# Altium schematic symbol library Components.SchLib: 32 symbols
Pins are listed as number, name and electrical type; pins without a type are passive.

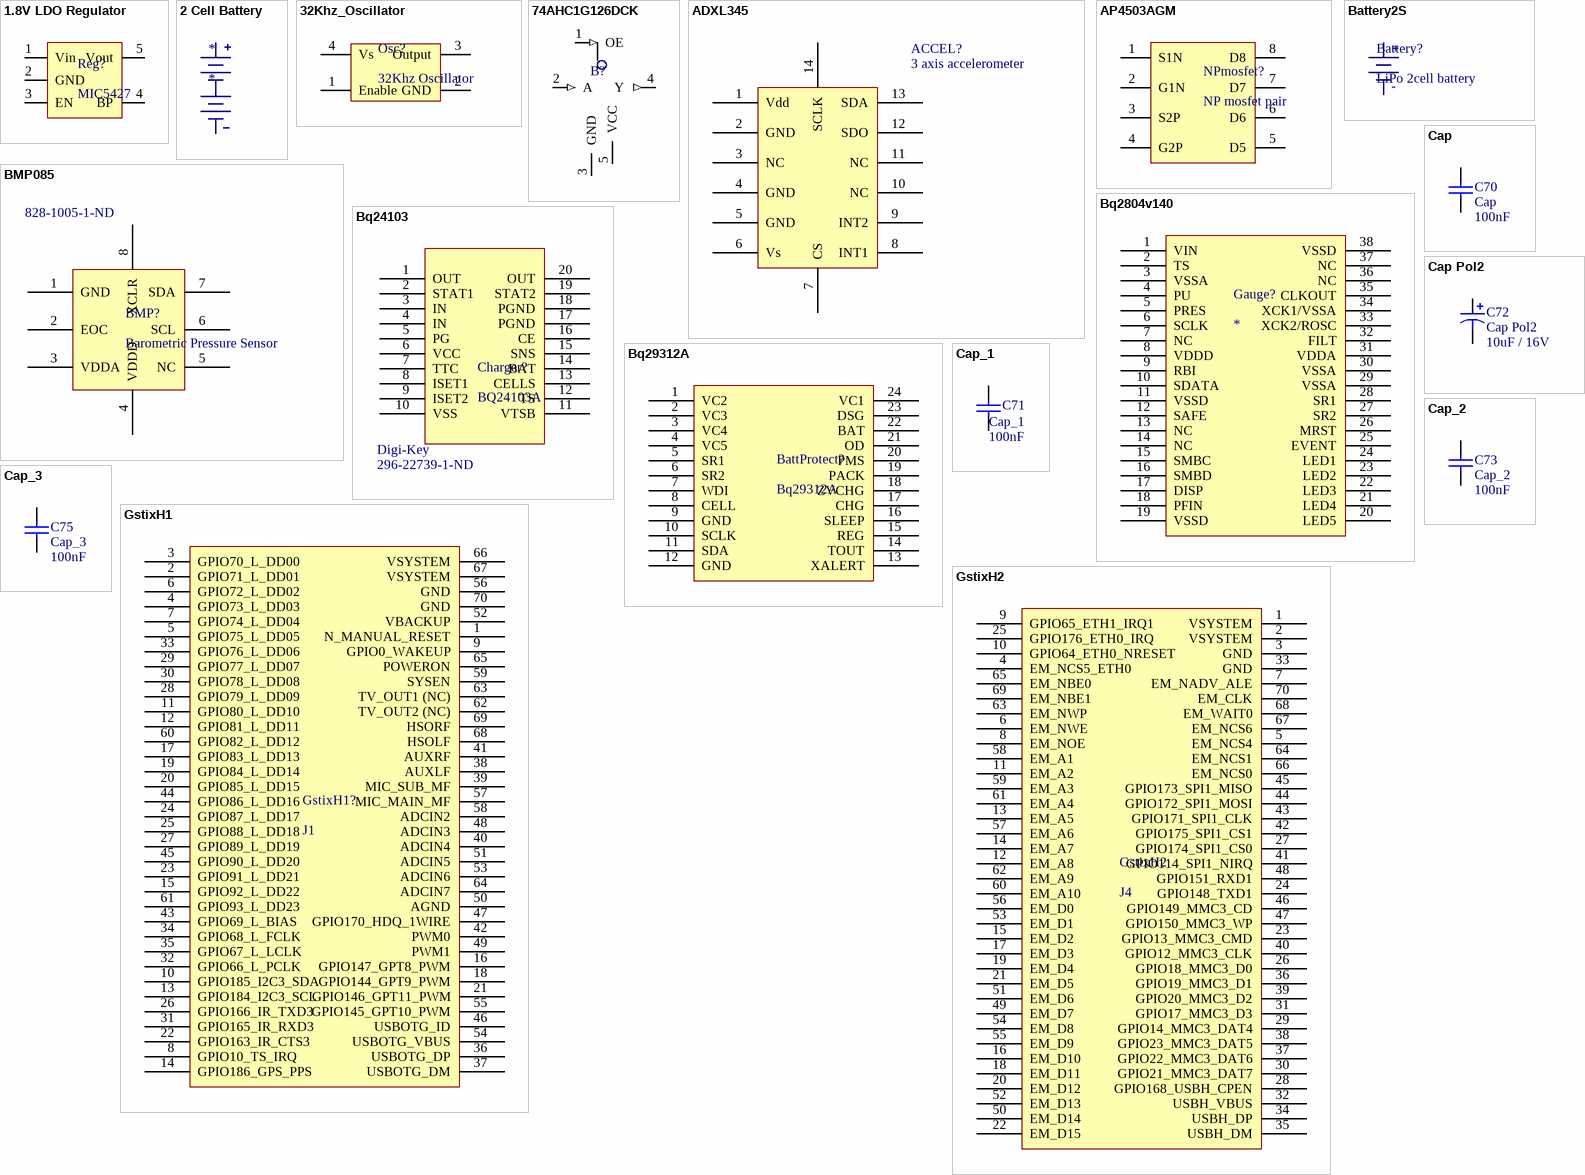
[diagram p0: symbols 1.8V LDO Regulator to GstixH2]

## 1.8V LDO Regulator
designator Reg?, comment MIC5427
576-1288-1-ND; Manufacturer: Micrel Inc; Manufacturer Part Number: MIC5247-1.8YM5 TR; Description: IC REG VOLT 150MA 1.8V SOT23-5; Regulator Topology: Positive Fixed; Voltage - Output: 1.8V; Voltage - Input: 2.7 V ~ 6 V; Voltage - Dropout (Typical): 0.15V @ 150mA; Number of Regulators: 1; Current - Output: 150mA; Current - Limit (Min): 160mA; Supplier Part Number 1: 576-1288-1-ND; Supplier 1: Digi-Key; RoHS: RoHS Compliant; Category: Integrated Circuits (ICs); Stock 1: 11342; Pricing 1: 1=0.9, 25=0.75, 100=0.6, 250=0.45, 500=0.42 (USD); Operating Temperature: -40°C ~ 125°C; Mounting Type: Surface Mount; Package / Case: SC-74A, SOT-753; Supplier Device Package: SOT-23-5; Packaging: Cut Tape (CT); ComponentLink1URL: http://www.micrel.com/_PDF/mic5247.pdf; ComponentLink1Description: http://www.micrel.com/_PDF/mic5247.pdf
footprint SOT23-STD-5-Lead (SOT23, 5-Leads, Body 3.0x3.0mm (max), Pitch 0.95mm, IPC Medium Density)
pins: 1 Vin, 2 GND, 3 EN, 4 BP, 5 Vout

## 2 Cell Battery
designator *
footprint Turnigy Nanotech 2cell (LiPo 2 cell battery 7.4V)
pins: 1 +, 2 Ctap, 3 -

## 32Khz_Oscillator
designator Osc?, comment 32Khz Oscillator
535-9999-1-ND; Manufacturer: Abracon Corporation; Manufacturer Part Number: ASDK-32.768KHZ-LRT; Description: OSCILLATOR 32.768KHZ 3.3V SMD; Frequency: 32.768kHz; Function: Tri-State (Output Enable); Output: CMOS; Voltage - Supply: 3.3V; Frequency Stability: ±25ppm; Current - Supply (Max): 3.5mA; Supplier Part Number 1: 535-9999-1-ND; Supplier 1: Digi-Key; RoHS: RoHS Compliant; Category: Crystals and Oscillators; Stock 1: 2339; Pricing 1: 1=5.06, 10=4.388, 50=3.8476, 100=3.0375, 500=2.565 (USD); Type: XO (Standard); Operating Temperature: -40°C ~ 85°C; Mounting Type: Surface Mount; Size / Dimension: 0.098" L x 0.079" W (2.50mm x 2.00mm); Height: 0.037" (0.95mm); Package / Case: 4-SMD, No Lead (DFN, LCC); Packaging: Cut Tape (CT); Current - Supply (Disable) (Max): -; ComponentLink1URL: http://www.abracon.com/Oscillators/ASDK.pdf; ComponentLink1Description: http://www.abracon.com/Oscillators/ASDK.pdf
footprint Oscillator
pins: 1 Enable, 2 GND, 3 Output, 4 Vs

## 74AHC1G126DCK
designator B?, comment single tristate output line buffer  (value not drawn)
296-8747-1-ND
footprint SOT95P280X145-5N (SOT23, 5-Leads, Body 3.0x3.0mm (max), Pitch 0.95mm, IPC Medium Density)
pins: 1 OE (in), 2 A (in), 3 GND (power), 4 Y (out), 5 VCC (power)

## ADXL345
designator ACCEL?, comment 3 axis accelerometer
ADXL345BCCZ-RLCT-ND; Manufacturer: Analog Devices Inc; Description: IC ACCEL SPI/I2C 3AX 3G 14LGA; Axis: X, Y, Z; Acceleration Range: ±2g, 4g, 8g, 16g; Sensitivity: 256LSB/g, 128LSB/g, 64LSB/g, 32LSB/g; Voltage - Supply: 2 V ~ 3.6 V; Output Type: Digital; Bandwidth: 6.25Hz ~ 3.2kHz Selectable; Interface: I²C, SPI; Supplier Part Number 1: ADXL345BCCZ-RLCT-ND; Supplier 1: Digi-Key; Manufacturer Part Number: ADXL345BCCZ-RL; RoHS: RoHS Compliant; Category: Sensors, Transducers; Stock 1: 13838; Pricing 1: 1=7.79, 25=6.4712, 100=5.8828, 250=5.29452, 500=4.85332, 1000=4.26503, 2500=4.04444 (USD); Mounting Type: Surface Mount; Package / Case: 14-VFLGA; Supplier Device Package: 14-LGA (3x5); ComponentLink1URL: http://www.analog.com/static/imported-files/data_sheets/ADXL345.pdf; ComponentLink1Description: http://www.analog.com/static/imported-files/data_sheets/ADXL345.pdf
footprint 16 pin 3mmx3mm LGA (16-Terminal Land Grid Array)
pins: 1 Vdd (power), 2 GND, 3 NC, 4 GND, 5 GND, 6 Vs, 7 CS, 8 INT1, 9 INT2, 10 NC, 11 NC, 12 SDO, 13 SDA, 14 SCLK (power)

## AP4503AGM
designator NPmosfet?, comment NP mosfet pair
footprint Model Name (Footprint not found)
pins: 1 S1N, 2 G1N, 3 S2P, 4 G2P, 5 D5, 6 D6, 7 D7, 8 D8

## Battery2S
designator Battery?, comment LiPo 2cell battery
footprint LiPo2S (LiPo 2 cell battery 7.4V)
pins: 1 +, 2 -

## BMP085
designator BMP?, comment Barometric Pressure Sensor
828-1005-1-ND; Manufacturer: Bosch Sensortec; Manufacturer Part Number: BMP085; Description: DIGITAL BAROMETRIC PRESSURE SNSR; Pressure Type: Absolute; Operating Pressure: 4.35 ~ 15.95 PSI, 300 ~ 1100 hPa; Port Size: Female, 0.591" (1.5mm) Flush; Output: Digital; Voltage - Supply: 1.62 V ~ 3.6 V; Supplier 1: Digi-Key; RoHS: RoHS Compliant; Category: Sensors, Transducers; Stock 1: 15867; Pricing 1: 1=7.89, 10=6.575, 100=5.523, 250=4.997, 500=4.6025, 1000=4.208 (USD); Accuracy: -; Termination Style: Surface Mount; Operating Temperature: -40°C ~ 85°C; Package / Case: 8-CLCC; Factory Setting: -; ComponentLink1URL: http://www.bosch-sensortec.com/content/language1/downloads/BST-BMP085-DS000-05.pdf; ComponentLink1Description: http://www.bosch-sensortec.com/content/language1/downloads/BST-BMP085-DS000-05.pdf; Supplier Part Number 1: 828-1005-1-ND
footprint LCCS127P500X500X120-8M (LCC, 8-Pins, Body 5.3x5.3mm (max), Pitch 1.27mm, IPC Low Density)
pins: 1 GND, 2 EOC, 3 VDDA, 4 VDDD, 5 NC, 6 SCL, 7 SDA, 8 XCLR

## Bq2804v140
designator Gauge?
footprint TSSOP50P640X120-38N (TSSOP, 38-Leads, Body 9.8x4.5mm (max), Pitch 0.50mm, IPC Medium Density)
pins: 1 VIN, 2 TS, 3 VSSA, 4 PU, 5 PRES, 6 SCLK, 7 NC, 8 VDDD, 9 RBI, 10 SDATA, 11 VSSD, 12 SAFE, 13 NC, 14 NC, 15 SMBC, 16 SMBD, 17 DISP, 18 PFIN, 19 VSSD, 20 LED5, 21 LED4, 22 LED3, 23 LED2, 24 LED1, 25 EVENT, 26 MRST, 27 SR2, 28 SR1, 29 VSSA, 30 VSSA, 31 VDDA, 32 FILT, 33 XCK2/ROSC, 34 XCK1/VSSA, 35 CLKOUT, 36 NC, 37 NC, 38 VSSD

## Bq24103
designator Charger?, comment BQ24103A  Supplier 1: Digi-Key
296-22739-1-ND; Supplier Part Number 1: 296-22739-1-ND
footprint QFN50P350X450X100-20N (QFN, 20-Leads, Body 4.7x3.7mm (max), Pitch 1.50mm, Pitch1 0.50mm, IPC Medium Density)
pins: 1 OUT, 2 STAT1, 3 IN, 4 IN, 5 PG, 6 VCC, 7 TTC, 8 ISET1, 9 ISET2, 10 VSS, 11 VTSB, 12 TS, 13 CELLS, 14 BAT, 15 SNS, 16 CE, 17 PGND, 18 PGND, 19 STAT2, 20 OUT

## Bq29312A
designator BattProtect?
296-19870-1-ND; Supplier 1: Digi-Key; Supplier Part Number 1: 296-19870-1-ND
footprint TSOP65P640X120-24N (TSOP, 24-Leads, Body 7.9x4.5mm (max), Pitch 0.65mm, IPC Medium Density)
pins: 1 VC2, 2 VC3, 3 VC4, 4 VC5, 5 SR1, 6 SR2, 7 WDI, 8 CELL, 9 GND, 10 SCLK, 11 SDA, 12 GND, 13 XALERT, 14 TOUT, 15 REG, 16 SLEEP, 17 CHG, 18 ZVCHG, 19 PACK, 20 PMS, 21 OD, 22 BAT, 23 DSG, 24 VC1

## Cap
designator C70  value 100nF
Published: 8-Jun-2000; LatestRevisionDate: 17-Jul-2002; LatestRevisionNote: Re-released for DXP Platform.; PackageReference: 0603; Publisher: Altium Limited
footprint RAD-0.3 (Capacitor; 2 Leads)
footprint VP32-3.2 (Capacitor, Ceramic, Thru-Hole, Dipped Radial; Body 5.1 x 3.2 mm (WxT) Pin Spacing 2.54 mm (typ))
footprint VP45-3.2 (Capacitor, Ceramic, Thru-Hole, Dipped Radial; Body 7.8 x 3.2 mm (WxT) Pin Spacing 5.08 mm (typ))
simulation model CAP (Capacitor)
signal-integrity model Cap
footprint 0603
pins: 1, 2

## Cap Pol2
designator C72  value 10uF / 16V
Published: 8-Jun-2000; LatestRevisionDate: 17-Jul-2002; LatestRevisionNote: Re-released for DXP Platform.; PackageReference: POLAR0.8; Publisher: Altium Limited
footprint TANT-A
footprint CAPPA14.05-10.5x6.3 (Capacitor, Axial, Polarised; Body 10.5 x 6.3 mm (LxDia. max), Lead Dia. 0.6 mm (typ))
footprint CAPPA23.6-18.5x8.5 (Capacitor, Axial, Polarised; Body 18.5 x 8.5 mm (LxDia. max), Lead Dia. 0.8 mm (typ))
footprint CAPPA31.6-26.5x12.5 (Capacitor, Axial, Polarised; Body 26.5 x 12.5 mm (LxDia. max), Lead Dia. 0.8 mm (typ))
footprint CAPPA35.6-30.5x18.5 (Capacitor, Axial, Polarised; Body 30.5 x 18.5 mm (LxDia. max), Lead Dia. 0.8 mm (typ))
footprint CAPPA46.1-41x21.5 (Capacitor, Axial, Polarised; Body 41 x 21.5 mm (LxDia. max), Lead Dia. 0.8 mm (typ))
simulation model CAP (Capacitor)
signal-integrity model Cap Pol
pins: 1, 2
1 alternate drawing of the same symbol

## Cap_1
designator C71  value 100nF
Published: 8-Jun-2000; LatestRevisionDate: 17-Jul-2002; LatestRevisionNote: Re-released for DXP Platform.; PackageReference: 0603; Publisher: Altium Limited
footprint RAD-0.3 (Capacitor; 2 Leads)
footprint VP32-3.2 (Capacitor, Ceramic, Thru-Hole, Dipped Radial; Body 5.1 x 3.2 mm (WxT) Pin Spacing 2.54 mm (typ))
footprint VP45-3.2 (Capacitor, Ceramic, Thru-Hole, Dipped Radial; Body 7.8 x 3.2 mm (WxT) Pin Spacing 5.08 mm (typ))
simulation model CAP (Capacitor)
signal-integrity model Cap
footprint 0603
pins: 1, 2

## Cap_2
designator C73  value 100nF
Published: 8-Jun-2000; LatestRevisionDate: 17-Jul-2002; LatestRevisionNote: Re-released for DXP Platform.; PackageReference: 0603; Publisher: Altium Limited
footprint RAD-0.3 (Capacitor; 2 Leads)
footprint VP32-3.2 (Capacitor, Ceramic, Thru-Hole, Dipped Radial; Body 5.1 x 3.2 mm (WxT) Pin Spacing 2.54 mm (typ))
footprint VP45-3.2 (Capacitor, Ceramic, Thru-Hole, Dipped Radial; Body 7.8 x 3.2 mm (WxT) Pin Spacing 5.08 mm (typ))
simulation model CAP (Capacitor)
signal-integrity model Cap
footprint 0603
pins: 1, 2

## Cap_3
designator C75  value 100nF
Published: 8-Jun-2000; LatestRevisionDate: 17-Jul-2002; LatestRevisionNote: Re-released for DXP Platform.; PackageReference: 0603; Publisher: Altium Limited
footprint RAD-0.3 (Capacitor; 2 Leads)
footprint VP32-3.2 (Capacitor, Ceramic, Thru-Hole, Dipped Radial; Body 5.1 x 3.2 mm (WxT) Pin Spacing 2.54 mm (typ))
footprint VP45-3.2 (Capacitor, Ceramic, Thru-Hole, Dipped Radial; Body 7.8 x 3.2 mm (WxT) Pin Spacing 5.08 mm (typ))
simulation model CAP (Capacitor)
signal-integrity model Cap
footprint 0603
pins: 1, 2

## GstixH1
designator GstixH1?, comment J1
footprint 5602_70_AVX_connecter
pins: 1 N_MANUAL_RESET, 2 GPIO71_L_DD01, 3 GPIO70_L_DD00, 4 GPIO73_L_DD03, 5 GPIO75_L_DD05, 6 GPIO72_L_DD02, 7 GPIO74_L_DD04, 8 GPIO10_TS_IRQ, 9 GPIO0_WAKEUP, 10 GPIO185_I2C3_SDA, 11 GPIO80_L_DD10, 12 GPIO81_L_DD11, 13 GPIO184_I2C3_SCL, 14 GPIO186_GPS_PPS, 15 GPIO92_L_DD22, 16 GPIO147_GPT8_PWM, 17 GPIO83_L_DD13, 18 GPIO144_GPT9_PWM, 19 GPIO84_L_DD14, 20 GPIO85_L_DD15, 21 GPIO146_GPT11_PWM, 22 GPIO163_IR_CTS3, 23 GPIO91_L_DD21, 24 GPIO87_L_DD17, 25 GPIO88_L_DD18, 26 GPIO166_IR_TXD3, 27 GPIO89_L_DD19, 28 GPIO79_L_DD09, 29 GPIO77_L_DD07, 30 GPIO78_L_DD08, 31 GPIO165_IR_RXD3, 32 GPIO66_L_PCLK, 33 GPIO76_L_DD06, 34 GPIO68_L_FCLK, 35 GPIO67_L_LCLK, 36 USBOTG_DP, 37 USBOTG_DM, 38 AUXLF, 39 MIC_SUB_MF, 40 ADCIN4, 41 AUXRF, 42 PWM0, 43 GPIO69_L_BIAS, 44 GPIO86_L_DD16, 45 GPIO90_L_DD20, 46 USBOTG_ID, 47 GPIO170_HDQ_1WIRE, 48 ADCIN3, 49 PWM1, 50 AGND, 51 ADCIN5, 52 VBACKUP, 53 ADCIN6, 54 USBOTG_VBUS, 55 GPIO145_GPT10_PWM, 56 GND, 57 MIC_MAIN_MF, 58 ADCIN2, 59 SYSEN, 60 GPIO82_L_DD12, 61 GPIO93_L_DD23, 62 TV_OUT2 (NC), 63 TV_OUT1 (NC), 64 ADCIN7, 65 POWERON, 66 VSYSTEM, 67 VSYSTEM, 68 HSOLF, 69 HSORF, 70 GND

## GstixH2
designator GstixH2, comment J4
footprint 5602_70_AVX_connecter
pins: 1 VSYSTEM, 2 VSYSTEM, 3 GND, 4 EM_NCS5_ETH0, 5 EM_NCS4, 6 EM_NWE, 7 EM_NADV_ALE, 8 EM_NOE, 9 GPIO65_ETH1_IRQ1, 10 GPIO64_ETH0_NRESET, 11 EM_A2, 12 EM_A8, 13 EM_A5, 14 EM_A7, 15 EM_D2, 16 EM_D10, 17 EM_D3, 18 EM_D11, 19 EM_D4, 20 EM_D12, 21 EM_D5, 22 EM_D15, 23 GPIO13_MMC3_CMD, 24 GPIO148_TXD1, 25 GPIO176_ETH0_IRQ, 26 GPIO18_MMC3_D0, 27 GPIO174_SPI1_CS0, 28 GPIO168_USBH_CPEN, 29 GPIO14_MMC3_DAT4, 30 GPIO21_MMC3_DAT7, 31 GPIO17_MMC3_D3, 32 USBH_VBUS, 33 GND, 34 USBH_DP, 35 USBH_DM, 36 GPIO19_MMC3_D1, 37 GPIO22_MMC3_DAT6, 38 GPIO23_MMC3_DAT5, 39 GPIO20_MMC3_D2, 40 GPIO12_MMC3_CLK, 41 GPIO114_SPI1_NIRQ, 42 GPIO175_SPI1_CS1, 43 GPIO171_SPI1_CLK, 44 GPIO172_SPI1_MOSI, 45 GPIO173_SPI1_MISO, 46 GPIO149_MMC3_CD, 47 GPIO150_MMC3_WP, 48 GPIO151_RXD1, 49 EM_D7, 50 EM_D14, 51 EM_D6, 52 EM_D13, 53 EM_D1, 54 EM_D8, 55 EM_D9, 56 EM_D0, 57 EM_A6, 58 EM_A1, 59 EM_A3, 60 EM_A10, 61 EM_A4, 62 EM_A9, 63 EM_NWP, 64 EM_NCS1, 65 EM_NBE0, 66 EM_NCS0, 67 EM_NCS6, 68 EM_WAIT0, 69 EM_NBE1, 70 EM_CLK

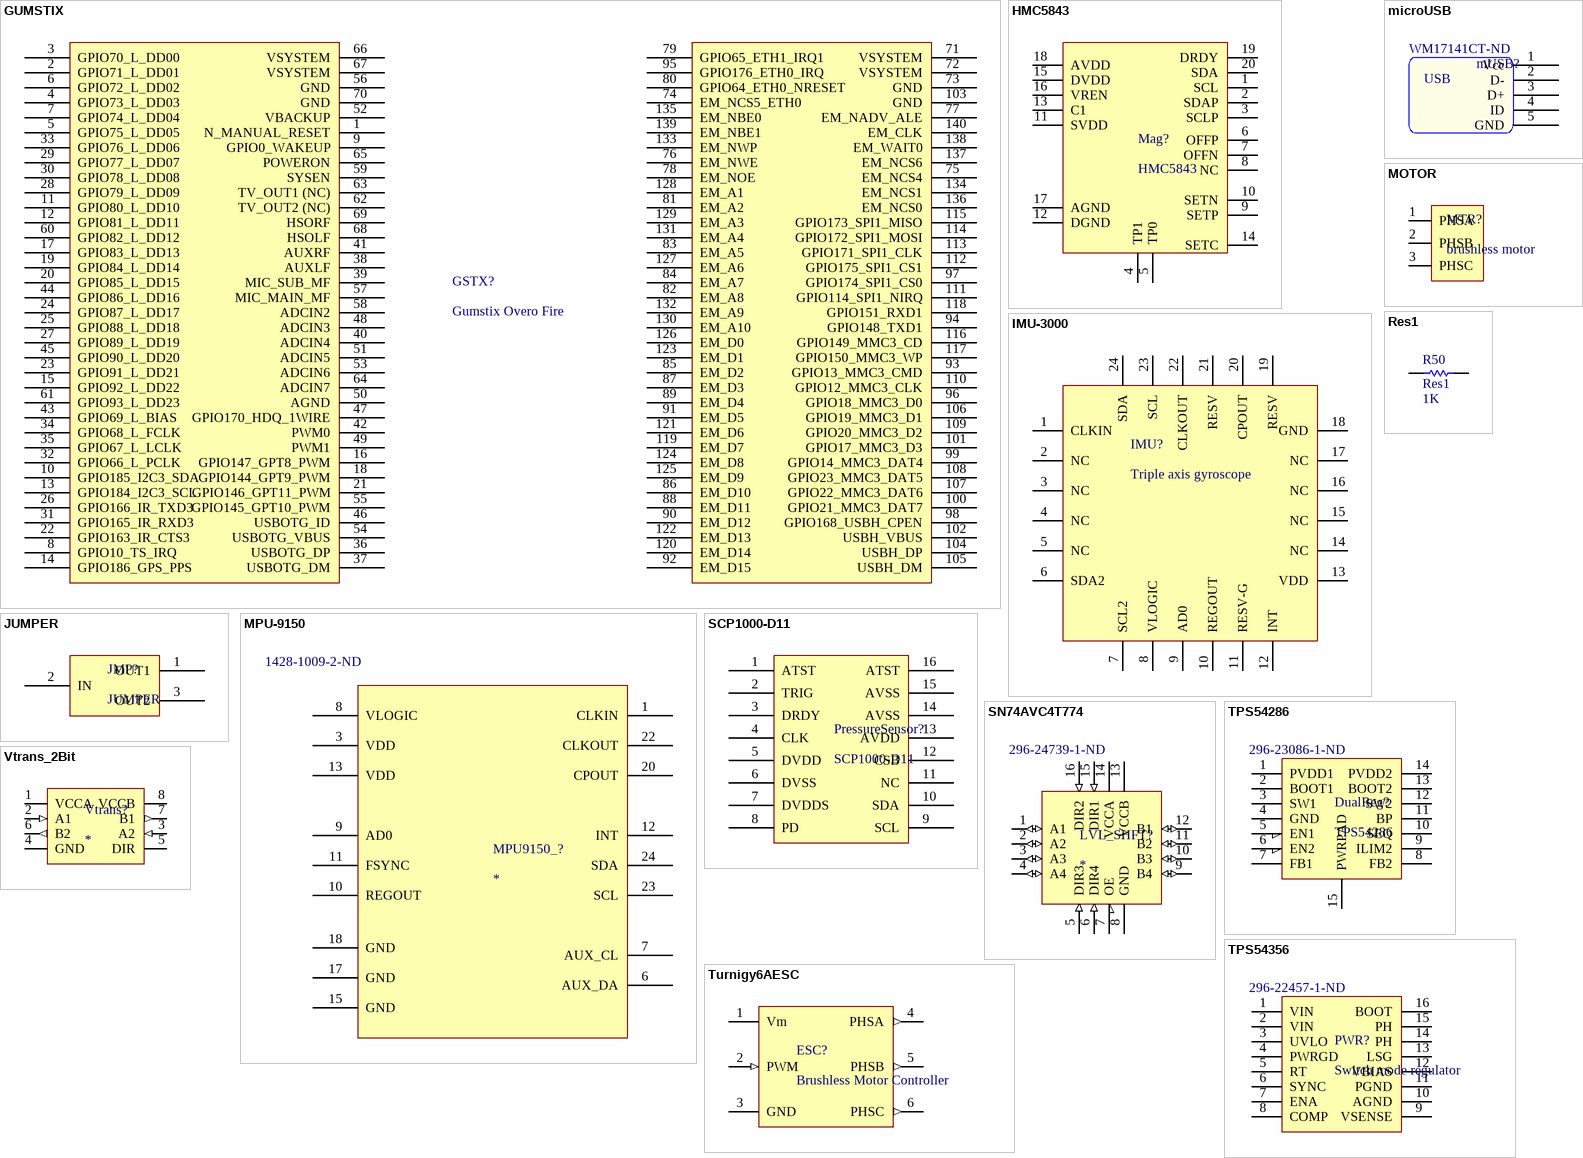
[diagram p1: symbols GUMSTIX to Vtrans_2Bit]

## GUMSTIX
designator GSTX?, comment Gumstix Overo Fire
footprint GUMSTIX
pins: 1 N_MANUAL_RESET, 2 GPIO71_L_DD01, 3 GPIO70_L_DD00, 4 GPIO73_L_DD03, 5 GPIO75_L_DD05, 6 GPIO72_L_DD02, 7 GPIO74_L_DD04, 8 GPIO10_TS_IRQ, 9 GPIO0_WAKEUP, 10 GPIO185_I2C3_SDA, 11 GPIO80_L_DD10, 12 GPIO81_L_DD11, 13 GPIO184_I2C3_SCL, 14 GPIO186_GPS_PPS, 15 GPIO92_L_DD22, 16 GPIO147_GPT8_PWM, 17 GPIO83_L_DD13, 18 GPIO144_GPT9_PWM, 19 GPIO84_L_DD14, 20 GPIO85_L_DD15, 21 GPIO146_GPT11_PWM, 22 GPIO163_IR_CTS3, 23 GPIO91_L_DD21, 24 GPIO87_L_DD17, 25 GPIO88_L_DD18, 26 GPIO166_IR_TXD3, 27 GPIO89_L_DD19, 28 GPIO79_L_DD09, 29 GPIO77_L_DD07, 30 GPIO78_L_DD08, 31 GPIO165_IR_RXD3, 32 GPIO66_L_PCLK, 33 GPIO76_L_DD06, 34 GPIO68_L_FCLK, 35 GPIO67_L_LCLK, 36 USBOTG_DP, 37 USBOTG_DM, 38 AUXLF, 39 MIC_SUB_MF, 40 ADCIN4, 41 AUXRF, 42 PWM0, 43 GPIO69_L_BIAS, 44 GPIO86_L_DD16, 45 GPIO90_L_DD20, 46 USBOTG_ID, 47 GPIO170_HDQ_1WIRE, 48 ADCIN3, 49 PWM1, 50 AGND, 51 ADCIN5, 52 VBACKUP, 53 ADCIN6, 54 USBOTG_VBUS, 55 GPIO145_GPT10_PWM, 56 GND, 57 MIC_MAIN_MF, 58 ADCIN2, 59 SYSEN, 60 GPIO82_L_DD12, 61 GPIO93_L_DD23, 62 TV_OUT2 (NC), 63 TV_OUT1 (NC), 64 ADCIN7, 65 POWERON, 66 VSYSTEM, 67 VSYSTEM, 68 HSOLF, 69 HSORF, 70 GND, 71 VSYSTEM, 72 VSYSTEM, 73 GND, 74 EM_NCS5_ETH0, 75 EM_NCS4, 76 EM_NWE, 77 EM_NADV_ALE, 78 EM_NOE, 79 GPIO65_ETH1_IRQ1, 80 GPIO64_ETH0_NRESET, 81 EM_A2, 82 EM_A8, 83 EM_A5, 84 EM_A7, 85 EM_D2, 86 EM_D10, 87 EM_D3, 88 EM_D11, 89 EM_D4, 90 EM_D12, 91 EM_D5, 92 EM_D15, 93 GPIO13_MMC3_CMD, 94 GPIO148_TXD1, 95 GPIO176_ETH0_IRQ, 96 GPIO18_MMC3_D0, 97 GPIO174_SPI1_CS0, 98 GPIO168_USBH_CPEN, 99 GPIO14_MMC3_DAT4, 100 GPIO21_MMC3_DAT7, 101 GPIO17_MMC3_D3, 102 USBH_VBUS, 103 GND, 104 USBH_DP, 105 USBH_DM, 106 GPIO19_MMC3_D1, 107 GPIO22_MMC3_DAT6, 108 GPIO23_MMC3_DAT5, 109 GPIO20_MMC3_D2, 110 GPIO12_MMC3_CLK, 111 GPIO114_SPI1_NIRQ, 112 GPIO175_SPI1_CS1, 113 GPIO171_SPI1_CLK, 114 GPIO172_SPI1_MOSI, 115 GPIO173_SPI1_MISO, 116 GPIO149_MMC3_CD, 117 GPIO150_MMC3_WP, 118 GPIO151_RXD1, 119 EM_D7, 120 EM_D14, 121 EM_D6, 122 EM_D13, 123 EM_D1, 124 EM_D8, 125 EM_D9, 126 EM_D0, 127 EM_A6, 128 EM_A1, 129 EM_A3, 130 EM_A10, 131 EM_A4, 132 EM_A9, 133 EM_NWP, 134 EM_NCS1, 135 EM_NBE0, 136 EM_NCS0, 137 EM_NCS6, 138 EM_WAIT0, 139 EM_NBE1, 140 EM_CLK

## HMC5843
designator Mag?
COM-09441; Supplier 1: Sparkfun; Supplier Part Number 1: COM-09441
pins: 1 SCL, 2 SDAP, 3 SCLP, 4 TP1, 5 TP0, 6 OFFP, 7 OFFN, 8 NC, 9 SETP, 10 SETN, 11 SVDD, 12 DGND, 13 C1, 14 SETC, 15 DVDD, 16 VREN, 17 AGND, 18 AVDD, 19 DRDY, 20 SDA

## IMU-3000
designator IMU?, comment Triple axis gyroscope
Supplier 1: Invensense
footprint QFN50P400X400X95-24N (QFN, 24-Leads, Body 4.1x4.1mm (max), Pitch 0.50mm, IPC Medium Density)
pins: 1 CLKIN, 2 NC, 3 NC, 4 NC, 5 NC, 6 SDA2, 7 SCL2, 8 VLOGIC, 9 AD0, 10 REGOUT, 11 RESV-G, 12 INT, 13 VDD, 14 NC, 15 NC, 16 NC, 17 NC, 18 GND, 19 RESV, 20 CPOUT, 21 RESV, 22 CLKOUT, 23 SCL, 24 SDA

## JUMPER
designator JMP?
pins: 1 OUT1, 2 IN, 3 OUT2

## microUSB
designator mUSB?  (value not drawn)
WM17141CT-ND; Manufacturer: Molex Inc; Manufacturer Part Number: 47346-0001; Description: CONN RCPT 5POS MICRO USB R/A; Connector Type: USB - micro B; Number of Contacts: 5; Gender: Receptacle; Supplier 1: Digi-Key; RoHS: RoHS Compliant; Category: Connectors, Interconnects; Stock 1: 13846; Pricing 1: 1=1.31, 10=1.016, 50=0.8594, 100=0.775, 250=0.65312, 500=0.61876, 1000=0.55 (USD); Specifications: -; Mounting Type: Surface Mount, Right Angle, Horizontal; Features: Shielded; Packaging: Cut Tape (CT); Ingress Protection: -; ComponentLink1URL: http://www.molex.com/pdm_docs/sd/473460001_sd.pdf; ComponentLink1Description: http://www.molex.com/pdm_docs/sd/473460001_sd.pdf; Supplier Part Number 1: WM17141CT-ND
footprint microUSB
pins: 1 Vcc, 2 D-, 3 D+, 4 ID, 5 GND
text: USB

## MOTOR
designator MTR?, comment brushless motor
footprint Motor Combo
pins: 1 PHSA, 2 PHSB, 3 PHSC

## MPU-9150
designator MPU9150_?  Supplier Part Number 1: 1428-1009-2-ND
Manufacturer: InvenSense; Description: GYRO/ACCELEROMETER 9-AXIS 24LGA; Output Type: Digital - I²C; Sensor Type: Motion Tracking; Supplier 1: Digi-Key; Manufacturer Part Number: MPU-9150; RoHS: RoHS Compliant; Category: Sensors, Transducers; Stock 1: 0; Pricing 1: 5000=5.3865, 10000=5.0625 (USD); ComponentLink1URL: http://invensense.com/mems/gyro/documents/PB-MPU-9150IMF%20MotionFit%20Wireless%20Developer%20Kit%20Product%20Brief.pdf; ComponentLink1Description: http://invensense.com/mems/gyro/documents/PB-MPU-9150IMF%20MotionFit%20Wireless%20Developer%20Kit%20Product%20Brief.pdf
footprint MPU9150_QFN (QFN, 24-Leads, Body 4.8x4.8mm (max), Pitch 0.50mm, IPC Medium Density)
pins: 1 CLKIN "Clock Input", 3 VDD, 6 AUX_DA "AUX DA", 7 AUX_CL, 8 VLOGIC "Digital I/O Supply Voltage", 9 AD0 "AUX DA", 10 REGOUT "AUX DA", 11 FSYNC "AUX DA", 12 INT, 13 VDD, 15 GND, 17 GND, 18 GND, 20 CPOUT, 22 CLKOUT, 23 SCL, 24 SDA

## Res1
designator R50  value 1K
Published: 8-Jun-2000; LatestRevisionDate: 17-Jul-2002; LatestRevisionNote: Re-released for DXP Platform.; PackageReference: AXIAL-0.3; Publisher: Altium Limited
footprint AXIAL-0.3 (Resistor; 2 Leads)
simulation model RESISTOR (Resistor)
signal-integrity model Res
footprint 0603
pins: 1, 2

## SCP1000-D11
designator PressureSensor?
footprint SCP1000-D11
pins: 1 ATST, 2 TRIG, 3 DRDY, 4 CLK, 5 DVDD, 6 DVSS, 7 DVDDS, 8 PD, 9 SCL, 10 SDA, 11 NC, 12 CSB, 13 AVDD, 14 AVSS, 15 AVSS, 16 ATST

## SN74AVC4T774
designator LVL_SHFT?
296-24739-1-ND; Manufacturer: Texas Instruments; Manufacturer Part Number: SN74AVC4T774PWR; Description: IC BUS TRANSCVR 4BIT DL 16TSSOP; Logic Function: Translator, Bidirectional, 3-State; Number of Bits: 4; Input Type: Logic; Data Rate: 380Mbps; Number of Outputs/Channel: 1; Differential - Input:Output: No/No; Propagation Delay (Max): 2.4ns; Voltage - Supply: 1.2 V ~ 3.6 V; Supplier 1: Digi-Key; RoHS: RoHS Compliant; Category: Integrated Circuits (ICs); Stock 1: 1449; Pricing 1: 1=1.22, 25=0.96, 100=0.864, 250=0.752, 500=0.672, 1000=0.528 (USD); Output Type: Logic; Number of Channels: 4; Operating Temperature: -40°C ~ 85°C; Package / Case: 16-TSSOP (0.173", 4.40mm Width); Supplier Device Package: 16-TSSOP; Packaging: Cut Tape (CT); ComponentLink1URL: http://www.ti.com/lit/ds/symlink/sn74avc4t774.pdf; ComponentLink1Description: http://www.ti.com/lit/ds/symlink/sn74avc4t774.pdf; Supplier Part Number 1: 296-24739-1-ND
footprint TSOP65P640X120-16N (TSOP, 16-Leads, Body 5.1x4.5mm (max), Pitch 0.65mm, IPC Medium Density)
pins: 1 A1 (io), 2 A2 (io), 3 A3 (io), 4 A4 (io), 5 DIR3 (in), 6 DIR4 (in), 7 OE, 8 GND (power), 9 B4 (io), 10 B3 (io), 11 B2 (io), 12 B1 (io), 13 VCCB (power), 14 VCCA (power), 15 DIR1 (in), 16 DIR2 (in)

## TPS54286
designator DualReg?
296-23086-1-ND; Manufacturer: Texas Instruments; Manufacturer Part Number: TPS54286PWPR; Description: IC BUCK DUAL ADJ 2A 14HTSSOP; Output Type: Adjustable; Number of Outputs: 2; Voltage - Output: 0.8 V ~ 25.2 V; Voltage - Input: 4.5 V ~ 28 V; PWM Type: Current Mode; Frequency - Switching: 630kHz; Current - Output: 2A; Synchronous Rectifier: No; Supplier 1: Digi-Key; RoHS: RoHS Compliant; Category: Integrated Circuits (ICs); Stock 1: 8539; Pricing 1: 1=7.2, 25=5.88, 100=5.28, 250=4.8, 500=4.2, 1000=3.6 (USD); Type: Step-Down (Buck); Operating Temperature: -40°C ~ 125°C; Mounting Type: Surface Mount; Package / Case: 14-TSSOP (0.173", 4.40mm Width) Exposed Pad; Packaging: Cut Tape (CT); Supplier Device Package: 14-HTSSOP; ComponentLink1URL: http://www.ti.com/lit/ds/symlink/tps54286.pdf; ComponentLink1Description: http://www.ti.com/lit/ds/symlink/tps54286.pdf; Supplier Part Number 1: 296-23086-1-ND
footprint TSOP65P640X120_HS-14N (TSOP, 14-Leads, Body 5.1x4.5mm (max), Pitch 0.65mm, IPC Medium Density)
pins: 1 PVDD1, 2 BOOT1, 3 SW1, 4 GND, 5 EN1, 6 EN2, 7 FB1, 8 FB2, 9 ILIM2, 10 SEQ, 11 BP, 12 SW2, 13 BOOT2, 14 PVDD2, 15 PWRPAD

## TPS54356
designator PWR?, comment Switch mode regulator
296-22457-1-ND; Manufacturer: Texas Instruments; Manufacturer Part Number: TPS54356MPWPREP; Description: IC BUCK SYNC 3.3V 3A 16HTSSOP; Output Type: Fixed; Number of Outputs: 1; Voltage - Output: 3.3V; Voltage - Input: 5.5 V ~ 20 V; Frequency - Switching: 250kHz, 500kHz; Current - Output: 3A; Synchronous Rectifier: Yes; Supplier 1: Digi-Key; RoHS: RoHS Compliant; Category: Integrated Circuits (ICs); Stock 1: 4016; Pricing 1: 1=10.34, 25=8.58, 100=7.8, 250=7.02, 500=6.435, 1000=5.655 (USD); Type: Step-Down (Buck); PWM Type: -; Operating Temperature: -55°C ~ 125°C; Mounting Type: Surface Mount; Package / Case: 16-TSSOP (0.173", 4.40mm Width) Exposed pad; Packaging: Cut Tape (CT); Supplier Device Package: 16-HTSSOP; ComponentLink1URL: http://www.ti.com/lit/ds/symlink/tps54354-ep.pdf; ComponentLink1Description: http://www.ti.com/lit/ds/symlink/tps54354-ep.pdf; Supplier Part Number 1: 296-22457-1-ND
footprint TSOP65P640X120_HS-16N (TSOP, 16-Leads, Body 5.1x4.5mm (max), Pitch 0.65mm, IPC Medium Density)
pins: 1 VIN, 2 VIN, 3 UVLO, 4 PWRGD, 5 RT, 6 SYNC, 7 ENA, 8 COMP, 9 VSENSE, 10 AGND, 11 PGND, 12 VBIAS, 13 LSG, 14 PH, 15 PH, 16 BOOT

## Turnigy6AESC
designator ESC?, comment Brushless Motor Controller
pins: 1 Vm (power), 2 PWM (in), 3 GND (power), 4 PHSA (out), 5 PHSB (out), 6 PHSC (out)

## Vtrans_2Bit
designator Vtrans?
296-17232-1-ND
footprint TSOP65P400X130-8N (TSOP, 8-Leads, Body 3.2x2.9mm (max), Pitch 0.65mm, IPC Medium Density)
pins: 1 VCCA, 2 A1 (in), 3 A2 (in), 4 GND, 5 DIR, 6 B2 (out), 7 B1 (out), 8 VCCB